# EAGLE library part LT1009 (library CharlieCreations)
2.5V Voltage Reference, Shunt Type, Max Current: 10mA
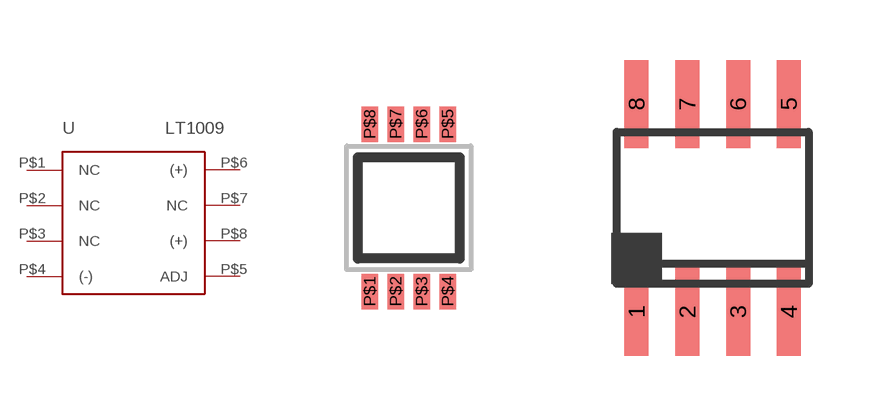
[diagram p0: symbol with the pads of MS8; footprints MS8, 8-SOIC]

Designator prefix -

## LT10091  [MS8]
P$1  NC  nc
P$2  NC  nc
P$3  NC  nc
P$4  (-)  pwr
P$5  ADJ  in
P$6  (+)  pwr
P$7  NC  nc
P$8  (+)  pwr

## LT10092  [8-SOIC]
1  NC  nc
2  NC  nc
3  NC  nc
4  (-)  pwr
5  ADJ  in
6  (+)  pwr
7  NC  nc
8  (+)  pwr

## Footprint MS8 (pad centres in mm)
smd 0.42 x 0.889: P$1 -0.975,-2.095; P$2 -0.325,-2.095; P$3 0.325,-2.095; P$4 0.975,-2.095; P$5 0.975,2.095; P$6 0.325,2.095; P$7 -0.325,2.095; P$8 -0.975,2.095

## Footprint 8-SOIC (pad centres in mm)
smd 0.6 x 2.2: 1 -1.905,-2.6; 2 -0.635,-2.6; 3 0.635,-2.6; 4 1.905,-2.6; 5 1.905,2.6; 6 0.635,2.6; 7 -0.635,2.6; 8 -1.905,2.6